# Altium schematic symbol library AnalogDevices.SchLib: 2 symbols
Pins are listed as number, name and electrical type; pins without a type are passive.

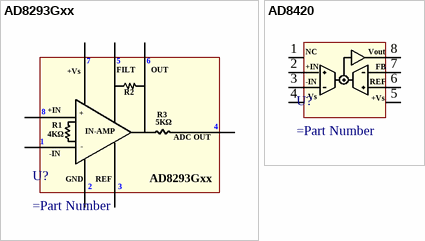
[diagram p0: symbols AD8293Gxx to AD8420]

## AD8293Gxx
designator U?
pins: 1, 2, 3, 4, 5, 6, 7, 8
text: FILT; OUT; +Vs; R2; +IN; +; R3; 5KΩ; R1; 4KΩ; IN-AMP; ADC OUT; -; -IN; GND; REF

## AD8420
designator U?
pins: 1 NC, 2, 3, 4, 5, 6, 7, 8
text: Vout; +IN; FB; -IN; REF; -Vs; +Vs